# Altium schematic symbol library Driver_TEC.SchLib: 2 symbols
Pins are listed as number, name and electrical type; pins without a type are passive.

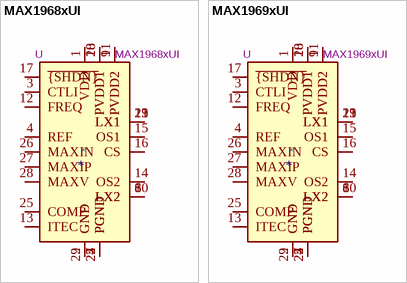
[diagram p0: symbols MAX1968xUI to MAX1969xUI]

## MAX1968xUI
designator *  value MAX1968xUI  Reference: U
Power Driver for Peltier TEC Modules, ±3A, HTSSOP-28; ki_keywords: thermoelectric cooler; ki_fp_filters: HTSSOP*4.4x9.7mm*P0.65mm*; Footprint: Package_SO:HTSSOP-28-1EP_4.4x9.7mm_P0.65mm_EP2.85x5.4mm; Datasheet: https://datasheets.maximintegrated.com/en/ds/MAX1968-MAX1969.pdf; Description_: Power Driver for Peltier TEC Modules, ±3A, HTSSOP-28
pins: 1 VDD, 2 GND, 3 CTLI, 4 REF, 5 PGND, 6 LX2, 7 PGND, 8 LX2, 9 PVDD2, 10 LX2, 11 PVDD2, 12 FREQ, 13 ITEC, 14 OS2, 15 OS1, 16 CS, 17 ~{{SHDN}}, 18 PVDD1, 19 LX1, 20 PVDD1, 21 LX1, 22 PGND, 23 LX1, 24 PGND, 25 COMP, 26 MAXIN, 27 MAXIP, 28 MAXV, 29 GND

## MAX1969xUI
designator *  value MAX1969xUI  Reference: U
Power Driver for Peltier TEC Modules, 6A, HTSSOP-28; ki_keywords: thermoelectric cooler; ki_fp_filters: HTSSOP*4.4x9.7mm*P0.65mm*; Footprint: Package_SO:HTSSOP-28-1EP_4.4x9.7mm_P0.65mm_EP2.85x5.4mm; Datasheet: https://datasheets.maximintegrated.com/en/ds/MAX1968-MAX1969.pdf; Description_: Power Driver for Peltier TEC Modules, 6A, HTSSOP-28
pins: 1 VDD, 2 GND, 3 CTLI, 4 REF, 5 PGND, 6 LX2, 7 PGND, 8 LX2, 9 PVDD2, 10 LX2, 11 PVDD2, 12 FREQ, 13 ITEC, 14 OS2, 15 OS1, 16 CS, 17 ~{{SHDN}}, 18 PVDD1, 19 LX1, 20 PVDD1, 21 LX1, 22 PGND, 23 LX1, 24 PGND, 25 COMP, 26 MAXIN, 27 MAXIP, 28 MAXV, 29 GND